# EAGLE library part 201646-012 (library con-molex-spoton)
HEADER
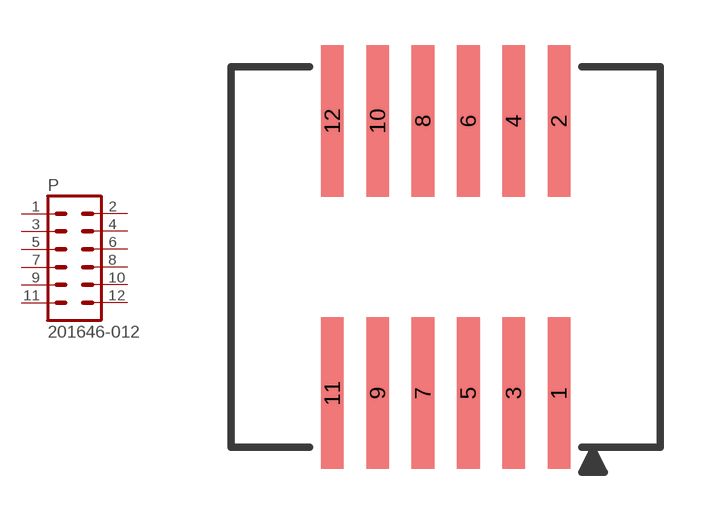
[diagram p2: symbol with the pads of 201646-012; footprint 201646-012]

Designator prefix P

## 201646-012  [201646-012]
1  1  pas
2  2  pas
3  3  pas
4  4  pas
5  5  pas
6  6  pas
7  7  pas
8  8  pas
9  9  pas
10  10  pas
11  11  pas
12  12  pas

## Footprint 201646-012 (pad centres in mm)
HEADER
smd 0.75 x 5: 1 3.75,-4.5; 2 3.75,4.5; 3 2.25,-4.5; 4 2.25,4.5; 5 0.75,-4.5; 6 0.75,4.5; 7 -0.75,-4.5; 8 -0.75,4.5; 9 -2.25,-4.5; 10 -2.25,4.5; 11 -3.75,-4.5; 12 -3.75,4.5